# Altium footprint library Tact_switches.PcbLib: 1 footprints
Each footprint in its own frame and in the unit in brackets; x right, y up, seen from the top. Pads: shape width x height; smd on the part's side, far side on the other; paste and mask are expansions set on the pad; w line width, h text height; cw(c..) or ccw(c..) is an arc to the next point about the centre after c.
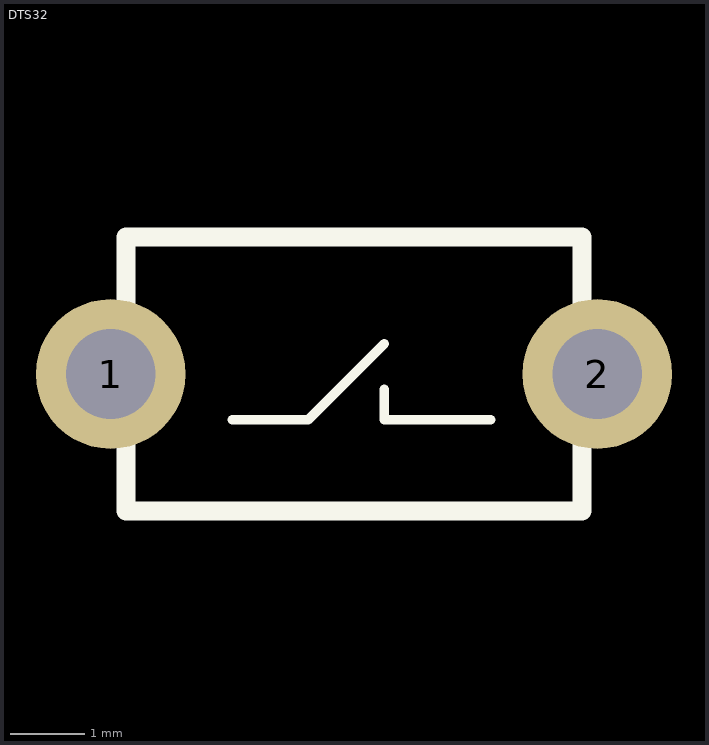
[diagram p0: the footprint, top view; thin cyan lines are the x and y axes]

## DTS32 [mm]
pads (2):
  round 2 hole 1.2: 1(7.112,19.304) 2(13.614,19.304)
Top Overlay:
  lines w0.127: 8.738,18.694 9.754,18.694 10.77,19.71 ; 10.77,19.101 10.77,18.694 12.192,18.694
  lines w0.254: 7.315,17.475 7.315,21.133 10.363,21.133 13.411,21.133 13.411,17.475 7.315,17.475